# Altium footprint library Full_lib.PcbLib: 247 footprints (part 10 of 16)
Each footprint in its own frame and in the unit in brackets; x right, y up, seen from the top. Pads: shape width x height; smd on the part's side, far side on the other; paste and mask are expansions set on the pad; w line width, h text height; cw(c..) or ccw(c..) is an arc to the next point about the centre after c.
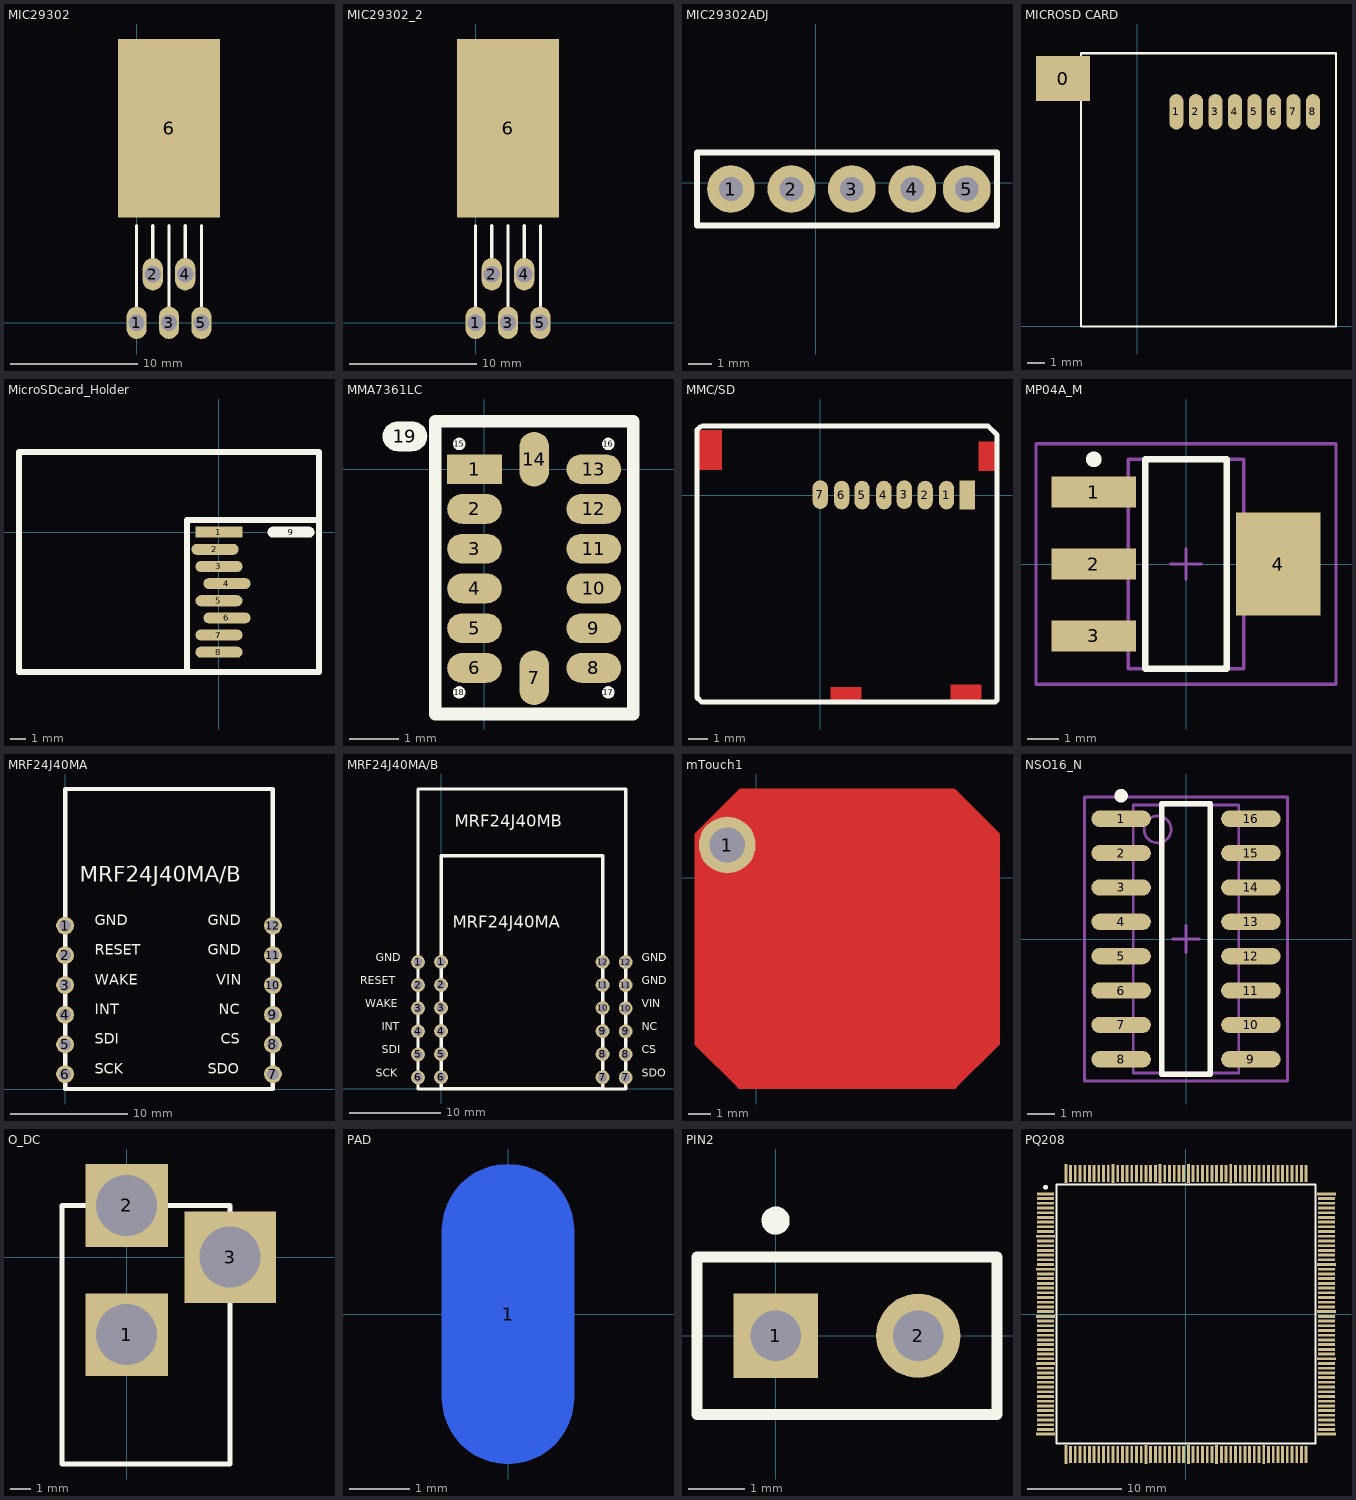
[diagram p9: the footprints below, top view; thin cyan lines are the x and y axes]

## MIC29302 [mm]
pads (6):
  oval 1.58x2.54 hole 1.27: 1(0,0) 2(1.27,3.81) 3(2.54,0) 4(3.81,3.81) 5(5.08,0)
  rect 8x14 smd: 6(2.54,15.24)
Top Overlay:
  lines w0.254: 0,1.27 0,7.62 ; 1.27,5.08 1.27,7.62 ; 2.54,1.27 2.54,7.62 ; 3.81,5.08 3.81,7.62 ; 5.08,1.27 5.08,7.62

## MIC29302_2 [mm]
pads (6):
  oval 1.58x2.54 hole 1.27: 1(0,0) 2(1.27,3.81) 3(2.54,0) 4(3.81,3.81) 5(5.08,0)
  rect 8x14 smd: 6(2.54,15.24)
Top Overlay:
  lines w0.254: 0,1.27 0,7.62 ; 1.27,5.08 1.27,7.62 ; 2.54,1.27 2.54,7.62 ; 3.81,5.08 3.81,7.62 ; 5.08,1.27 5.08,7.62

## MIC29302ADJ [mm] "MIC29302ADJ"
pads (5):
  round 2 hole 1: 1(-3.556,-0.254) 2(-1.016,-0.254) 3(1.524,-0.254) 4(4.064,-0.254) 5(6.35,-0.254)
Top Overlay:
  lines w0.254: -4.978,-1.778 -4.978,1.27 7.62,1.27 7.62,-1.778 -4.978,-1.778

## MICROSD CARD [mil]
height 250
pads (9):
  rect 120x100 smd: 0(-165,550)
  oval 31.5x78.73 smd: 1(86.6,476.3) 2(129.92,476.38) 3(173.23,476.38) 4(216.53,476.38) 5(259.85,476.38) 6(303.1,476.3) 7(346.4,476.3) 8(389.77,476.38)
Top Overlay:
  lines w5: -125,0 -125,606.28 440.93,606.28 440.93,0 -125,0

## MicroSDcard_Holder [mm]
pads (9):
  rect 3x0.7 smd: 1(0,0)
  oval 3x0.7 smd: 2(-0.254,-1.089) 3(0,-2.177) 4(0.508,-3.266) 5(0,-4.354) 6(0.508,-5.443) 7(0,-6.531) 8(0,-7.62)
  oval 3x0.7 on Top Overlay: 9(4.572,0)
Top Overlay:
  lines w0.381: -2.032,-8.89 -12.7,-8.89 -12.7,5.08 -12.192,5.08 6.35,5.08 6.35,0.762 ; -2.032,-8.89 -2.032,0.762 6.35,0.762 ; -2.032,-8.89 2.54,-8.89 6.35,-8.89 6.35,0.762

## MMA7361LC [mm]
pads (19):
  rect 1.1x0.6 smd: 1(-0.2,0)
  oval 1.1x0.6 smd: 2(-0.2,-0.8) 3(-0.2,-1.6) 4(-0.2,-2.4) 5(-0.2,-3.2) 6(-0.2,-4) 8(2.2,-4) 9(2.2,-3.2) 10(2.2,-2.4) 11(2.2,-1.6) 12(2.2,-0.8) 13(2.2,0)
  oval 0.6x1.1 smd: 7(1,-4.2) 14(1,0.2)
  round 0.254 on Top Overlay: 15(-0.508,0.508) 16(2.492,0.508) 17(2.492,-4.492) 18(-0.508,-4.492)
  oval 0.9x0.6 on Top Overlay: 19(-1.6,0.66)
Top Overlay:
  lines w0.254: -0.991,-4.928 2.972,-4.928 ; -0.991,-4.902 -0.991,0.94 ; -0.991,0.965 2.997,0.965 2.997,-4.928

## MMC/SD [mm]
pads (8):
  oval 0.8x1.5 smd: 1(6.604,0) 2(5.486,0) 3(4.394,0.025) 4(3.327,0) 5(2.184,0) 6(1.118,0) 7(0,0.025)
  rect 0.8x1.5 smd: ""(7.696,0)
Top Layer:
  rectangle: 6.807,-10.795 8.433,-9.906
  rectangle: 0.533,-10.795 2.159,-10.033
  rectangle: 8.28,1.27 9.144,2.794
  rectangle: -6.35,1.321 -5.131,3.404
Top Overlay:
  lines w0.254: -6.274,3.556 -6.299,3.556 -6.452,3.404 -6.452,-10.592 -6.223,-10.82 9.169,-10.82 9.246,-10.744 9.246,3.15 8.788,3.607 -6.172,3.607

## MP04A_M [mm] "SOT223, 4-Leads, Body 6.5x3.5mm, Pitch 2.3mm, Lead Span 7mm, IPC Low Density"
height 1.8
pads (4):
  rect 2.7x1 smd: 1(-2.95,2.3) 2(-2.95,0) 3(-2.95,-2.3)
  rect 2.7x3.3 smd: 4(2.95,0)
Top Overlay:
  circle w0.25: c-2.95,3.35 r0.125
  lines w0.2: -1.3,-3.35 -1.3,3.35 1.3,3.35 1.3,-3.35 -1.3,-3.35
Mechanical 13:
  lines w0.1: -1.85,-3.35 -1.85,3.35 1.85,3.35 1.85,-3.35 -1.85,-3.35
Mechanical 15:
  lines w0.1: -0.5,0 0.5,0 ; 0,-0.5 0,0.5 ; -4.8,-3.85 -4.8,3.85 4.8,3.85 4.8,-3.85 -4.8,-3.85
3D body: height 1.8, standoff 0, extent -1.85,-3.35 1.85,3.35

## MRF24J40MA [mil] "RF module"
height 196.85
pads (12):
  round 60 hole 39.37: 1(0,550) 2(0,450) 3(0,350) 4(0,250) 5(0,150) 6(0,50) 7(700,50) 8(700,150) 9(700,250) 10(700,350) 11(700,450) 12(700,550)
Top Overlay:
  lines w15: 0,0 0,1010 700,1010 700,0 0,0
  text "MRF24J40MA/B" at 50,680 h90
  text "GND" at 100,540 h60
  text "RESET" at 100,440 h60
  text "WAKE" at 100,340 h60
  text "INT" at 100,240 h60
  text "SDI" at 100,140 h60
  text "SCK" at 100,40 h60
  text "SDO" at 481.29,40 h60
  text "CS" at 524.64,140 h60
  text "NC" at 518.32,240 h60
  text "VIN" at 509.13,340 h60
  text "GND" at 480,440 h60
  text "GND" at 480,540 h60

## MRF24J40MA/B [mil]
pads (24):
  round 60 hole 39.37: 1(-100,549) 1(0,550) 2(-100,449) 2(0,450) 3(-100,349) 3(0,350) 4(-100,249) 4(0,250) 5(-100,149) 5(0,150) 6(-100,49) 6(0,50) 7(700,50) 7(800,49) 8(700,150) 8(800,149) 9(700,250) 9(800,249) 10(700,350) 10(800,349) 11(700,450) 11(800,449) 12(700,550) 12(800,549)
Top Overlay:
  lines w15: -100,-1 -100,1299 800,1299 800,-1 -100,-1 ; 0,0 0,1010 700,1010 700,0 0,0
  text "MRF24J40MB" at 60,1119 h90
  text "MRF24J40MA" at 50,680 h90
  text "GND" at -282.84,540 h60
  text "RESET" at -350,440 h60
  text "WAKE" at -328.82,340 h60
  text "INT" at -257.98,240 h60
  text "SDI" at -257.22,140 h60
  text "SCK" at -282.43,40 h60
  text "SDO" at 869.88,40 h60
  text "CS" at 870,140 h60
  text "NC" at 870,240 h60
  text "VIN" at 870,340 h60
  text "GND" at 870,440 h60
  text "GND" at 870,540 h60

## mTouch1 [mil]
pads (1):
  round 99.37 hole 61.5: 1(-51,57)
Top Layer:
  rectangle: 335,-355 356,-344
  rectangle: 336,-360 349,-351
  rectangle: 338,-350 360,-344
  rectangle: 339,-344 369,-335
  rectangle: 342,-336 379,-326
  rectangle: 335,-327 390,-312
  rectangle: 338,-317 397,-305
  rectangle: 334,-308 406,-296
  rectangle: 330,-298 416,-284
  rectangle: 14,-333 74,-317
  rectangle: -76,-320 -67,-308
  rectangle: -72,-324 -56,-308
  rectangle: -83,-312 -55,-302
  rectangle: -67,-333 -46,-317
  rectangle: -60,-335 -56,-321
  rectangle: -43,-357 -28,-336
  rectangle: -65,-327 -37,-297
  rectangle: -94,-307 -48,-283
  rectangle: -35,-363 -8,-327
  rectangle: -54,-344 -3,-302
  rectangle: -61,-316 4,-281
  rectangle: -104,-298 5,-284
  rectangle: -81,89 -51,98
  rectangle: -90,1 36,92
  rectangle: -99,-64 4,83
  rectangle: -73,-69 -53,110
  rectangle: -63,-46 -41,121
  rectangle: -50,-121 13,132
  rectangle: -32,-36 4,146
  rectangle: -39,18 43,143
  rectangle: 334,132 354,145
  rectangle: 344,104 369,131
  rectangle: 330,125 348,147
  rectangle: 329,125 359,139
  rectangle: 332,115 371,129
  rectangle: 323,98 383,118
  rectangle: 385,42 408,95
  rectangle: 376,57 417,84
  rectangle: 325,39 395,106
  rectangle: -103,-289 420,73
  rectangle: -27,-366 344,146
  lines w10: -103,75 -103,-291 -29,-365 346,-365 419,-292 417,-294 ; -101,75 -101,77 -27,151 345,151 421,75 ; 346,150 421,75 ; 411,-300 421,-290 421,75

## NSO16_N [mm]
pads (16):
  oval 2.2x0.6 smd: 1(-2.4,4.445) 2(-2.4,3.175) 3(-2.4,1.905) 4(-2.4,0.635) 5(-2.4,-0.635) 6(-2.4,-1.905) 7(-2.4,-3.175) 8(-2.4,-4.445) 9(2.4,-4.445) 10(2.4,-3.175) 11(2.4,-1.905) 12(2.4,-0.635) 13(2.4,0.635) 14(2.4,1.905) 15(2.4,3.175) 16(2.4,4.445)
Top Overlay:
  circle w0.25: c-2.4,5.295 r0.125
  lines w0.2: -0.9,-5 -0.9,5 0.9,5 0.9,-5 -0.9,-5
Mechanical 13:
  circle w0.1: c-1.05,4.05 r0.5
  lines w0.1: -1.95,-4.95 -1.95,4.95 1.95,4.95 1.95,-4.95 -1.95,-4.95
Mechanical 15:
  lines w0.1: -0.5,0 0.5,0 ; 0,-0.5 0,0.5 ; -3.75,-5.25 -3.75,5.25 3.75,5.25 3.75,-5.25 -3.75,-5.25
3D body: height 1.75, standoff 0, extent -1.95,-4.95 1.95,4.95

## O_DC [mil]
pads (3):
  rect 160x160 hole 118: 1(0,-150) 2(0,100)
  rect 177.17x177.17 hole 118.1: 3(200,0)
Top Overlay:
  lines w10: -125,-400 200,-400 200,100 -125,100 -125,-400

## PAD [mm]
pads (1):
  oval 2.2x5 smd far side: 1(0,0)

## PIN2 [mm] "Photosensitive Diode; 2 Leads"
pads (2):
  rect 1.5x1.5 hole 0.9: 1(0,0)
  round 1.5 hole 0.9: 2(2.54,0)
Top Overlay:
  circle w0.25: c0,2.05 r0.125
  lines w0.2: -1.4,-1.4 -1.4,1.4 3.94,1.4 3.94,-1.4 -1.4,-1.4

## PQ208 [mm] "208-Pin Plastic Quad Flat Pack (PQ208)"
height 4.1
pads (208):
  rect 1.778x0.3 smd: 1(-14.9,12.75) 2(-14.9,12.25) 3(-14.9,11.75) 4(-14.9,11.25) 5(-14.9,10.75) 6(-14.9,10.25) 7(-14.9,9.75) 8(-14.9,9.25) 9(-14.9,8.75) 11(-14.9,7.75) 12(-14.9,7.25) 13(-14.9,6.75) 14(-14.9,6.25) 15(-14.9,5.75) 16(-14.9,5.25) 18(-14.9,4.25) 19(-14.9,3.75) 20(-14.9,3.25) 21(-14.9,2.75) 22(-14.9,2.25) 23(-14.9,1.75) 24(-14.9,1.25) 25(-14.9,0.75) 26(-14.9,0.25) 28(-14.9,-0.75) 29(-14.9,-1.25) 30(-14.9,-1.75) 31(-14.9,-2.25) 32(-14.9,-2.75) 33(-14.9,-3.25) 34(-14.9,-3.75) 35(-14.9,-4.25) 36(-14.9,-4.75) 38(-14.9,-5.75) 39(-14.9,-6.25) 40(-14.9,-6.75) 41(-14.9,-7.25) 42(-14.9,-7.75) 43(-14.9,-8.25) 44(-14.9,-8.75) 45(-14.9,-9.25) 46(-14.9,-9.75) 47(-14.9,-10.25) 48(-14.9,-10.75) 49(-14.9,-11.25) 50(-14.9,-11.75) 51(-14.9,-12.25) 106(14.9,-12.25) 107(14.9,-11.75) 108(14.9,-11.25) 109(14.9,-10.75) 110(14.9,-10.25) 111(14.9,-9.75) 112(14.9,-9.25) 113(14.9,-8.75) 114(14.9,-8.25) 115(14.9,-7.75) 116(14.9,-7.25) 117(14.9,-6.75) 118(14.9,-6.25) 119(14.9,-5.75) 120(14.9,-5.25) 122(14.9,-4.25) 123(14.9,-3.75) 124(14.9,-3.25) 125(14.9,-2.75) 126(14.9,-2.25) 127(14.9,-1.75) 128(14.9,-1.25) 129(14.9,-0.75) 130(14.9,-0.25) 132(14.9,0.75) 133(14.9,1.25) 134(14.9,1.75) 135(14.9,2.25) 136(14.9,2.75) 137(14.9,3.25) 138(14.9,3.75) 139(14.9,4.25) 140(14.9,4.75) 142(14.9,5.75) 143(14.9,6.25) 144(14.9,6.75) 145(14.9,7.25) 146(14.9,7.75) 147(14.9,8.25) 148(14.9,8.75) 149(14.9,9.25) 150(14.9,9.75) 151(14.9,10.25) 152(14.9,10.75) 153(14.9,11.25) 154(14.9,11.75) 155(14.9,12.25)
  rect 2.032x0.3 smd: 10(-14.9,8.25) 17(-14.9,4.75) 27(-14.9,-0.25) 37(-14.9,-5.25) 52(-14.9,-12.75) 105(14.9,-12.75) 121(14.9,-4.75) 131(14.9,0.25) 141(14.9,5.25) 156(14.9,12.75)
  rect 0.3x2.032 smd: 53(-12.75,-14.9) 70(-4.25,-14.9) 79(0.25,-14.9) 85(3.25,-14.9) 95(8.25,-14.9) 173(4.75,14.9) 182(0.25,14.9) 188(-2.75,14.9) 198(-7.75,14.9) 208(-12.75,14.9)
  rect 0.3x1.778 smd: 54(-12.25,-14.9) 55(-11.75,-14.9) 56(-11.25,-14.9) 57(-10.75,-14.9) 58(-10.25,-14.9) 59(-9.75,-14.9) 60(-9.25,-14.9) 61(-8.75,-14.9) 62(-8.25,-14.9) 63(-7.75,-14.9) 64(-7.25,-14.9) 65(-6.75,-14.9) 66(-6.25,-14.9) 67(-5.75,-14.9) 68(-5.25,-14.9) 69(-4.75,-14.9) 71(-3.75,-14.9) 72(-3.25,-14.9) 73(-2.75,-14.9) 74(-2.25,-14.9) 75(-1.75,-14.9) 76(-1.25,-14.9) 77(-0.75,-14.9) 78(-0.25,-14.9) 80(0.75,-14.9) 81(1.25,-14.9) 82(1.75,-14.9) 83(2.25,-14.9) 84(2.75,-14.9) 86(3.75,-14.9) 87(4.25,-14.9) 88(4.75,-14.9) 89(5.25,-14.9) 90(5.75,-14.9) 91(6.25,-14.9) 92(6.75,-14.9) 93(7.25,-14.9) 94(7.75,-14.9) 96(8.75,-14.9) 97(9.25,-14.9) 98(9.75,-14.9) 99(10.25,-14.9) 100(10.75,-14.9) 101(11.25,-14.9) 102(11.75,-14.9) 103(12.25,-14.9) 104(12.75,-14.9) 157(12.75,14.9) 158(12.25,14.9) 159(11.75,14.9) 160(11.25,14.9) 161(10.75,14.9) 162(10.25,14.9) 163(9.75,14.9) 164(9.25,14.9) 165(8.75,14.9) 166(8.25,14.9) 167(7.75,14.9) 168(7.25,14.9) 169(6.75,14.9) 170(6.25,14.9) 171(5.75,14.9) 172(5.25,14.9) 174(4.25,14.9) 175(3.75,14.9) 176(3.25,14.9) 177(2.75,14.9) 178(2.25,14.9) 179(1.75,14.9) 180(1.25,14.9) 181(0.75,14.9) 183(-0.25,14.9) 184(-0.75,14.9) 185(-1.25,14.9) 186(-1.75,14.9) 187(-2.25,14.9) 189(-3.25,14.9) 190(-3.75,14.9) 191(-4.25,14.9) 192(-4.75,14.9) 193(-5.25,14.9) 194(-5.75,14.9) 195(-6.25,14.9) 196(-6.75,14.9) 197(-7.25,14.9) 199(-8.25,14.9) 200(-8.75,14.9) 201(-9.25,14.9) 202(-9.75,14.9) 203(-10.25,14.9) 204(-10.75,14.9) 205(-11.25,14.9) 206(-11.75,14.9) 207(-12.25,14.9)
Top Overlay:
  circle w0.25: c-14.9,13.45 r0.125
  lines w0.2: -13.725,-13.725 -13.725,13.725 13.725,13.725 13.725,-13.725 -13.725,-13.725